# Altium footprint library DIN 41612.PcbLib: 2 footprints
Each footprint in its own frame and in the unit in brackets; x right, y up, seen from the top. Pads: shape width x height; smd on the part's side, far side on the other; paste and mask are expansions set on the pad; w line width, h text height; cw(c..) or ccw(c..) is an arc to the next point about the centre after c.
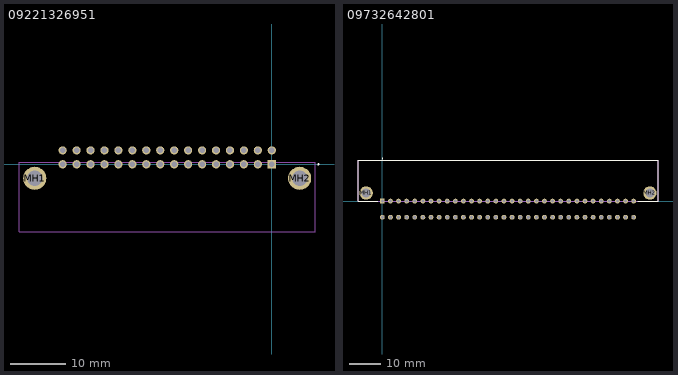
[diagram p0: the footprints below, top view; thin cyan lines are the x and y axes]

## 09221326951 [mm]
pads (34):
  rect 1.5x1.5 hole 1: A1(0,0)
  round 1.5 hole 1: A2(-2.54,0) A3(-5.08,0) A4(-7.62,0) A5(-10.16,0) A6(-12.7,0) A7(-15.24,0) A8(-17.78,0) A9(-20.32,0) A10(-22.86,0) A11(-25.4,0) A12(-27.94,0) A13(-30.48,0) A14(-33.02,0) A15(-35.56,0) A16(-38.1,0) B1(0,2.54) B2(-2.54,2.54) B3(-5.08,2.54) B4(-7.62,2.54) B5(-10.16,2.54) B6(-12.7,2.54) B7(-15.24,2.54) B8(-17.78,2.54) B9(-20.32,2.54) B10(-22.86,2.54) B11(-25.4,2.54) B12(-27.94,2.54) B13(-30.48,2.54) B14(-33.02,2.54) B15(-35.56,2.54) B16(-38.1,2.54)
  round 4.2 hole 2.8: MH1(-43.18,-2.54) MH2(5.08,-2.54)
Top Overlay:
  lines w0.2: 8.4,0 cw(c8.5,0) 8.6,0 cw(c8.5,0) 8.4,0
Mechanical 15:
  lines w0.1: -46.05,-12.28 -46.05,0.36 7.95,0.36 7.95,-12.28 -46.05,-12.28
3D body "09221326951.stp": height 6.25, standoff -3.58, extent -46.126,-12.693 7.874,2.787

## 09732642801 [mm]
pads (66):
  rect 1.5x1.5 hole 1: A1(0,0)
  round 1.5 hole 1: A2(2.54,0) A3(5.08,0) A4(7.62,0) A5(10.16,0) A6(12.7,0) A7(15.24,0) A8(17.78,0) A9(20.32,0) A10(22.86,0) A11(25.4,0) A12(27.94,0) A13(30.48,0) A14(33.02,0) A15(35.56,0) A16(38.1,0) A17(40.64,0) A18(43.18,0) A19(45.72,0) A20(48.26,0) A21(50.8,0) A22(53.34,0) A23(55.88,0) A24(58.42,0) A25(60.96,0) A26(63.5,0) A27(66.04,0) A28(68.58,0) A29(71.12,0) A30(73.66,0) A31(76.2,0) A32(78.74,0) C1(0,-5.08) C2(2.54,-5.08) C3(5.08,-5.08) C4(7.62,-5.08) C5(10.16,-5.08) C6(12.7,-5.08) C7(15.24,-5.08) C8(17.78,-5.08) C9(20.32,-5.08) C10(22.86,-5.08) C11(25.4,-5.08) C12(27.94,-5.08) C13(30.48,-5.08) C14(33.02,-5.08) C15(35.56,-5.08) C16(38.1,-5.08) C17(40.64,-5.08) C18(43.18,-5.08) C19(45.72,-5.08) C20(48.26,-5.08) C21(50.8,-5.08) C22(53.34,-5.08) C23(55.88,-5.08) C24(58.42,-5.08) C25(60.96,-5.08) C26(63.5,-5.08) C27(66.04,-5.08) C28(68.58,-5.08) C29(71.12,-5.08) C30(73.66,-5.08) C31(76.2,-5.08) C32(78.74,-5.08)
  round 4.2 hole 2.8: MH1(-5.08,2.54) MH2(83.82,2.54)
Top Overlay:
  lines w0.2: -7.63,0 -7.63,12.74 ; -7.63,0 -7.63,12.74 ; -7.63,0 -1.5,0 -7.63,0 ; -7.63,12.74 86.37,12.74 ; -7.63,12.74 86.37,12.74 ; 0,13.3 cw(c0,13.35) 0,13.4 ; 0,13.3 ccw(c0,13.35) 0,13.4 ; 0,13.3 cw(c0,13.35) 0,13.4 ; 86.37,0 86.37,12.74 ; 86.37,0 86.37,12.74 ; 86.37,0 80,0 86.37,0
Mechanical 15:
  lines w0.1: -7.63,0 -7.63,12.74 86.37,12.74 86.37,0 -7.63,0
3D body "09732642801.stp": height 9.11, standoff -2.97, extent -7.707,-5.347 86.193,12.573